# Altium schematic symbol library PO_Connector.SchLib: 1 symbol
Pins are listed as number, name and electrical type; pins without a type are passive.

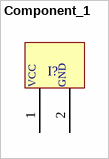
[diagram p0: symbol Component_1]

## Component_1
designator I?  (value not drawn)
footprint PCBComponent_1
pins: 1 VCC, 2 GND